# Altium schematic symbol library Schlib1.SchLib: 9 symbols
Pins are listed as number, name and electrical type; pins without a type are passive.

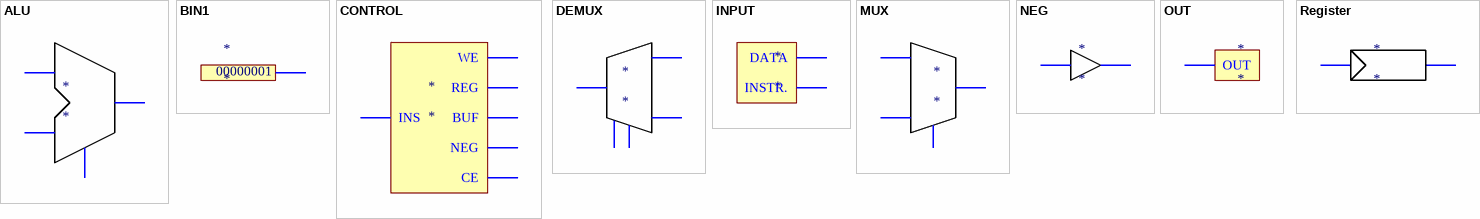
[diagram p0: symbols ALU to Register]

## ALU
designator *
pins: ?1, ?2, ?3, ?4

## BIN1
designator *
pins: ?1
text: 00000001

## CONTROL
designator *
pins: ?1 INS, ?2 WE, ?3 REG, ?4 BUF, ?5 NEG, ?6 CE

## DEMUX
designator *
pins: ?1, ?2, ?3, ?4, ?5

## INPUT
designator *
pins: ?1 DATA, ?2 INSTR.

## MUX
designator *
pins: ?1, ?2, ?3, ?4

## NEG
designator *
pins: ?1, ?2

## OUT
designator *
pins: ?1 OUT

## Register
designator *
pins: ?1, ?2